# Altium footprint library Sensor_PCI_pcblib.PcbLib: 10 footprints
Each footprint in its own frame and in the unit in brackets; x right, y up, seen from the top. Pads: shape width x height; smd on the part's side, far side on the other; paste and mask are expansions set on the pad; w line width, h text height; cw(c..) or ccw(c..) is an arc to the next point about the centre after c.
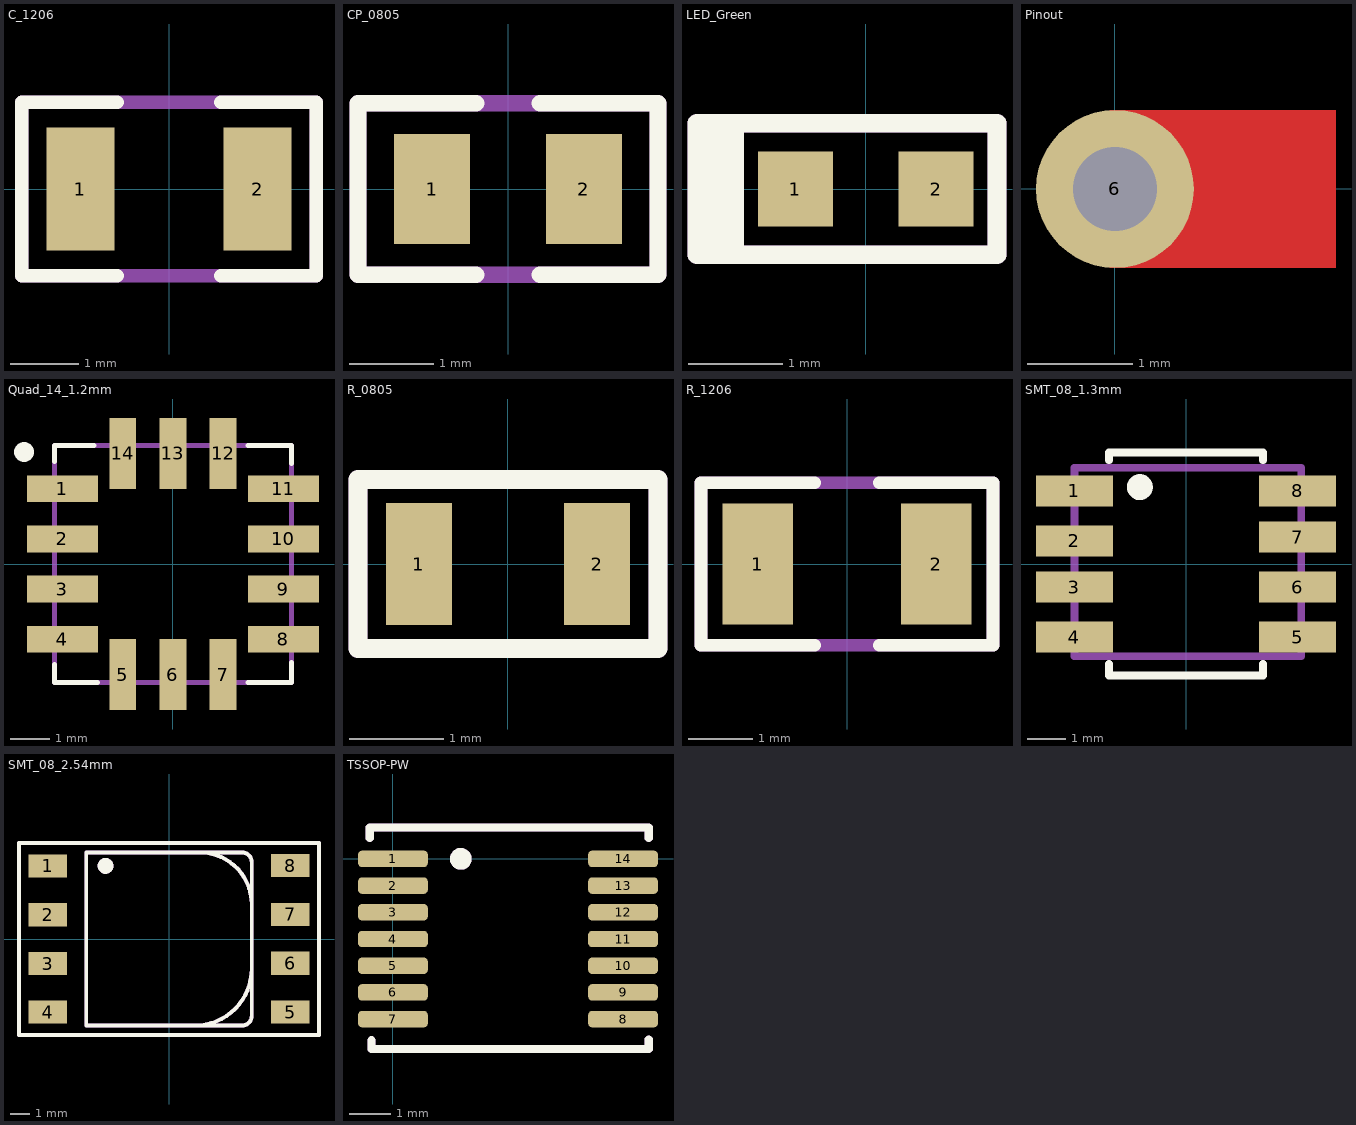
[diagram p0: the footprints below, top view; thin cyan lines are the x and y axes]

## C_1206 [mm]
pads (2):
  rect 1x1.8 smd mask+0.13: 1(-1.3,0) 2(1.3,0)
Top Overlay:
  lines w0.2: -0.762,-1.27 -2.159,-1.27 -2.159,1.27 -0.762,1.27 ; 0.762,-1.27 2.159,-1.27 2.159,1.27 0.762,1.27
Assembly Notes:
  lines w0.2: -2.159,-1.27 2.159,-1.27 2.159,1.27 -2.159,1.27 -2.159,-1.27
  text "'.Designator'" at -1.1,-0.3 h0.6
3D body "Ceramic_Capacitor_1206_h38mil.step": height 0.96, standoff 0.01, extent -1.6,-0.8 1.6,0.8

## CP_0805 [mm]
pads (2):
  rect 0.9x1.3 smd: 1(-0.9,0) 2(0.9,0)
Top Overlay:
  lines w0.2: -0.381,-1.016 -1.778,-1.016 -1.778,1.016 -1.524,1.016 -0.381,1.016 ; 0.381,-1.016 1.778,-1.016 1.778,1.016 0.381,1.016
Assembly Notes:
  lines w0.2: -1.778,-1.016 -1.778,1.016 0.381,1.016 1.778,1.016 1.778,-1.016 0.381,-1.016 -1.778,-1.016
  text "'.Designator'" at -1.1,-0.3 h0.6
3D body "CAPC2012X95N EIA 0805.step": height 0.96, standoff 0.01, extent -1,-0.6 1,0.6

## LED_Green [mm]
pads (2):
  rect 0.8x0.8 smd: 1(-0.75,0) 2(0.75,0)
Top Overlay:
  rectangle: -1.8,-0.8 -1.3,0.8
  lines w0.2: -1.8,-0.7 -1.8,0.7 1.4,0.7 1.4,-0.7 -1.8,-0.7
Assembly Notes:
  rectangle: -1.8,-0.8 -1.3,0.8
  lines w0.2: -1.8,-0.7 -1.8,0.7 1.4,0.7 1.4,-0.7 -1.8,-0.7
  text "'.Designator'" at -1.1,-0.3 h0.6
3D body "User Library-SMD LED 0603.step": height 0.4, standoff 0.01, extent -0.8,-0.4 0.8,0.4

## Pinout [mm]
pads (1):
  round 1.5 hole 0.8 mask+0.15: 6(0,0)
Top Layer:
  rectangle: -0.05,-0.75 2.1,0.75

## Quad_14_1.2mm [mm]
pads (14):
  rect 1.8x0.68 smd: 1(-2.8,1.905) 2(-2.8,0.635) 3(-2.8,-0.635) 4(-2.8,-1.905) 8(2.8,-1.905) 9(2.8,-0.635) 10(2.8,0.635) 11(2.8,1.905)
  rect 0.68x1.8 smd: 5(-1.27,-2.8) 6(0,-2.8) 7(1.27,-2.8) 12(1.27,2.8) 13(0,2.8) 14(-1.27,2.8)
Top Overlay:
  circle w0.25: c-3.77,2.836 r0.127
  lines w0.127: -3,-2.54 -3,-3 -1.905,-3 ; -3,2.6 -3,3 -2,3 ; 1.9,-3 3,-3 3,-2.5 ; 1.905,3 3,3 3,2.54
Mechanical 13:
  lines w0.127: -3,-3 -3,3 3,3 3,-3 -3,-3
Assembly Notes:
  lines w0.127: -3,-3 -3,3 3,3 3,-3 -3,-3
3D body "ADXL357BEZ.STEP": height 2.41, standoff 0.01, extent -3,-3 3,3

## R_0805 [mm]
pads (2):
  rect 0.7x1.3 smd: 1(-0.95,0) 2(0.95,0)
Top Overlay:
  lines w0.2: -1.6,-0.9 1.6,-0.9 1.6,0.9 -1.6,0.9 -1.6,-0.9
Assembly Notes:
  lines w0.2: -1.6,-0.9 1.6,-0.9 1.6,0.9 -1.6,0.9 -1.6,-0.9
  text "'.Designator'" at -1.1,-0.3 h0.6
3D body "User Library-CR2012-0805.step": height 0.61, standoff 0.01, extent -1,-0.625 1,0.625

## R_1206 [mm]
pads (2):
  rect 1.1x1.9 smd mask+0.13: 1(-1.397,0) 2(1.397,0)
Top Overlay:
  lines w0.2: -0.508,-1.27 -2.286,-1.27 -2.286,1.27 -0.508,1.27 ; 0.508,-1.27 2.286,-1.27 2.286,1.27 0.508,1.27
Assembly Notes:
  lines w0.2: -2.286,-1.27 2.286,-1.27 2.286,1.27 -2.286,1.27 -2.286,-1.27
  text "'.Designator'" at -1.1,-0.3 h0.6
3D body "User Library-CR3216-1206.step": height 0.61, standoff 0.01, extent -1.6,-0.8 1.6,0.8

## SMT_08_1.3mm [mm]
pads (8):
  rect 2x0.8 smd mask+0.13: 1(-2.9,1.9) 2(-2.9,0.6) 3(-2.9,-0.6) 4(-2.9,-1.9) 5(2.9,-1.9) 6(2.9,-0.6) 7(2.9,0.7) 8(2.9,1.9)
Top Overlay:
  circle w0.354: c-1.2,2 r0.16
  lines w0.2: -2,-2.6 -2,-2.9 2,-2.9 2,-2.6 ; -2,2.7 -2,2.9 2,2.9 2,2.7
Assembly Notes:
  lines w0.2: -2.9,-2.4 -2.9,2.5 -2,2.5 3,2.5 3,-2.4 -2.9,-2.4
  text "'.Designator'" at -1.1,-0.3 h0.6
3D body "sop8.STEP": height 1.57, standoff 0.01, extent -2.916,-2.411 3.064,2.489

## SMT_08_2.54mm [mm]
pads (8):
  rect 2x1.2 smd mask+0.15: 1(-6.3,3.8) 2(-6.3,1.26) 3(-6.3,-1.28) 4(-6.3,-3.8) 5(6.3,-3.8) 6(6.3,-1.26) 7(6.3,1.28) 8(6.3,3.82)
Top Overlay:
  circle w0.42: c-3.3,3.8 r0.2
  lines w0.2: 1.35,-4.5 ccw(c1.35,-1.55) 4.3,-1.55 ; 1.6,4.5 cw(c1.6,1.8) 4.3,1.8 ; -7.8,-5 7.8,-5 7.8,5 -7.8,5 -7.8,-5 ; -4.3,-4.5 -4.3,4.5 3.8,4.5 cw(c3.8,4) 4.3,4 4.3,-4 cw(c3.8,-4) 3.8,-4.5 -4.3,-4.5
Assembly Notes:
  circle w0.42: c-3.3,3.8 r0.2
  lines w0.2: 1.35,-4.5 ccw(c1.35,-1.55) 4.3,-1.55 ; 1.6,4.5 cw(c1.6,1.8) 4.3,1.8 ; -7.8,-5 7.8,-5 7.8,5 -7.8,5 -7.8,-5 ; -4.3,-4.5 -4.3,4.5 3.8,4.5 cw(c3.8,4) 4.3,4 4.3,-4 cw(c3.8,-4) 3.8,-4.5 -4.3,-4.5
  text "'.Designator'" at -1.45,-0.383 h0.8
3D body "sps-siot-trustability-smt-an-cad-model-ciid-162325.stp": height 14.74, standoff 0.02, extent -6.673,-5.006 6.673,4.9

## TSSOP-PW [mm]
pads (14):
  rrect50% 1.7x0.4 smd mask+0.07: 1(0,0) 2(0,-0.65) 3(0,-1.3) 4(0,-1.95) 5(0,-2.6) 6(0,-3.25) 7(0,-3.9) 8(5.6,-3.9) 9(5.6,-3.25) 10(5.6,-2.6) 11(5.6,-1.95) 12(5.6,-1.3) 13(5.6,-0.65) 14(5.6,0)
Top Overlay:
  circle w0.27: c1.651,0 r0.13
  lines w0.2: -0.566,0.508 -0.566,0.762 6.223,0.762 6.223,0.508 ; -0.523,-4.416 -0.523,-4.628 -0.481,-4.628 6.223,-4.628 6.223,-4.395
Assembly Notes:
  circle w0.27: c1.651,0 r0.13
  lines w0.2: -0.566,0.508 -0.566,0.762 6.223,0.762 6.223,0.508 ; -0.523,-4.416 -0.523,-4.628 -0.481,-4.628 6.223,-4.628 6.223,-4.395
  text "'.Designator'" at 1.8,-2.2 h0.6
3D body "PW0014A.stp": height 1.13, standoff 0, extent -0.355,-4.43 6.045,0.57